# EAGLE library part DX07S0 (library USBC)
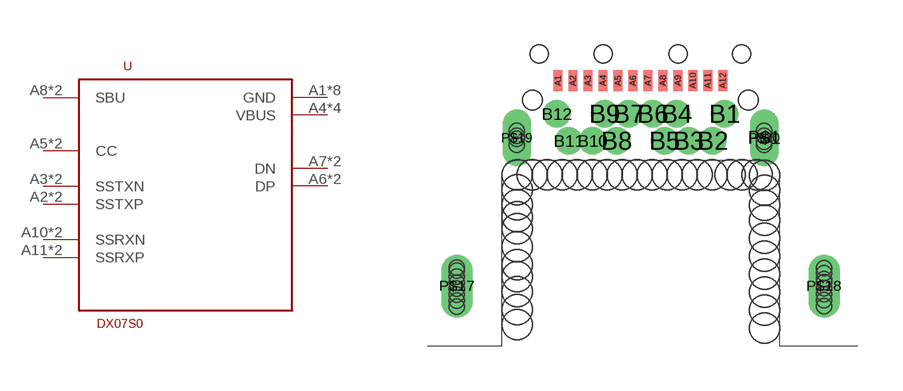
[diagram p0: symbol with the pads of DX07S024JJ2; footprint DX07S024JJ2]

Designator prefix -

## DX07S0  [DX07S024JJ2]
A1  GND
A2  SSTXP
A3  SSTXN
A4  VBUS
A5  CC
A6  DP
A7  DN
A8  SBU
A9  VBUS
A10  SSRXN
A11  SSRXP
A12  GND
B1  GND
B2  SSTXP
B3  SSTXN
B4  VBUS
B5  CC
B6  DP
B7  DN
B8  SBU
B9  VBUS
B10  SSRXN
B11  SSRXP
B12  GND
P$17  GND
P$18  GND
P$19  GND
P$20  GND

## Footprint DX07S024JJ2 (pad centres in mm)
smd 0.3 x 0.7: A1 -2.75,1.11; A2 -2.25,1.11; A3 -1.75,1.11; A4 -1.25,1.11; A5 -0.75,1.11; A6 -0.25,1.11; A7 0.25,1.11; A8 0.75,1.11; A9 1.25,1.11; A10 1.75,1.11; A11 2.25,1.11; A12 2.75,1.11
drill 0.4 pad 0.65: B1 2.8,0; B2 2.4,-0.9; B3 1.6,-0.9; B4 1.2,0; B5 0.8,-0.9; B6 0.4,0; B7 -0.4,0; B8 -0.8,-0.9; B9 -1.2,0; B10 -1.6,-0.9; B11 -2.4,-0.9; B12 -2.8,0
drill 0.45 pad 0.6 long: P$1 4.12,-0.8; P$19 -4.13,-0.8; P$20 4.12,-0.8
drill 0.5 pad 1.05 long: P$17 -6.13,-5.75; P$18 6.12,-5.75
hole 0.6 at -3.375,2
hole 0.6 at -1.25,2
hole 0.6 at 1.25,2
hole 0.6 at 3.375,2
hole 0.65 at -3.6,0.45
hole 0.65 at 3.6,0.45
hole 0.5 at -4.13,-0.57
hole 0.5 at -4.13,-1.03
hole 0.5 at -4.13,-0.83
hole 0.5 at -4.13,-0.73
hole 0.5 at 4.12,-0.57
hole 0.5 at 4.12,-1.03
hole 0.5 at 4.12,-0.73
hole 0.5 at 4.12,-0.93
hole 0.5 at -6.13,-5.13
hole 0.5 at -6.13,-6.43
hole 0.5 at -6.13,-6.23
hole 0.5 at -6.13,-6.03
hole 0.5 at -6.13,-5.83
hole 0.5 at -6.13,-5.63
hole 0.5 at -6.13,-5.43
hole 0.5 at -6.13,-5.23
hole 0.5 at 6.12,-5.15
hole 0.5 at 6.12,-6.41
hole 0.5 at 6.12,-6.21
hole 0.5 at 6.12,-6.01
hole 0.5 at 6.12,-5.81
hole 0.5 at 6.12,-5.31
hole 0.5 at 6.12,-5.51
hole 0.5 at 6.12,-5.61
hole 1 at -4.12,-2.04
hole 1 at -4.12,-2.54
hole 1 at -4.12,-3.04
hole 1 at -4.12,-3.44
hole 1 at -4.12,-3.84
hole 1 at -4.12,-4.44
hole 1 at -4.12,-5.04
hole 1 at -4.12,-5.44
hole 1 at -4.12,-5.94
hole 1 at -4.12,-6.54
hole 1 at -4.12,-7.04
hole 1 at -3.62,-2.04
hole 1 at -3.12,-2.04
hole 1 at -2.62,-2.04
hole 1 at -2.12,-2.04
hole 1 at -1.62,-2.04
hole 1 at -1.12,-2.04
hole 1 at -0.62,-2.04
hole 1 at -0.12,-2.04
hole 1 at 0.38,-2.04
hole 1 at 0.88,-2.04
hole 1 at 1.38,-2.04
hole 1 at 1.88,-2.04
hole 1 at 2.38,-2.04
hole 1 at 2.98,-2.04
hole 1 at 3.38,-2.04
hole 1 at 3.88,-2.04
hole 1 at 4.13,-2.05
hole 1 at 4.13,-2.55
hole 1 at 4.13,-3.05
hole 1 at 4.13,-3.55
hole 1 at 4.13,-4.15
hole 1 at 4.13,-4.75
hole 1 at 4.13,-5.35
hole 1 at 4.13,-5.95
hole 1 at 4.13,-6.55
hole 1 at 4.13,-7.15